# EAGLE library part USBLC6-4SC6 (library ethernet_poe_stm_v1.0)
EDS suppression chip: https://www.st.com/content/ccc/resource/technical/document/datasheet/9a/e6/1c/4f/b6/9a/44/e6/CD00047494.pdf/files/CD00047494.pdf/jcr:content/translations/en.CD00047494.pdf
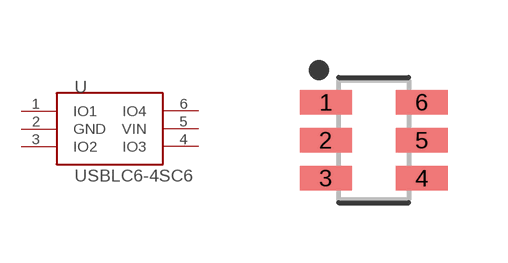
[diagram p5: symbol with the pads of 6-SOT23-USBLC6; footprint 6-SOT23-USBLC6]

Designator prefix U

## USBLC6-4SC6  [6-SOT23-USBLC6]
1  IO1
2  GND
3  IO2
4  IO3
5  VIN
6  IO4

## Footprint 6-SOT23-USBLC6 (pad centres in mm)
6-SOT23, 0.95 mm pitch, 2.75 mm span, 2.90 X 1.63 X 1.10 mm body 6-pin SOT23 package with 0.95 mm pitch, 2.75 mm span with body size 2.90 X 1.63 X 1.10 mm
smd 1.304 x 0.609: 1 -1.204,0.95; 2 -1.204,0; 3 -1.204,-0.95; 4 1.204,-0.95; 5 1.204,0; 6 1.204,0.95